# EAGLE library part OL2381 (library microbuilder)
OL2381 - Integrated UHF Transceiver (315/434/868/915 MHz)
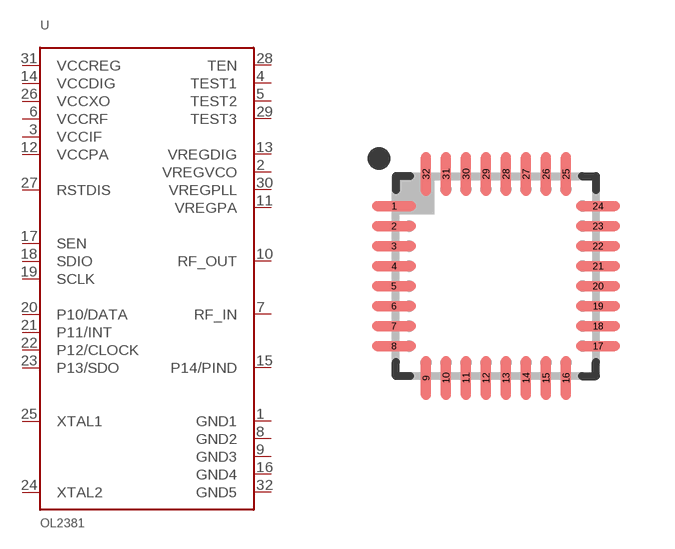
[diagram p91: symbol with the pads of HVQFN32-5X5; footprint HVQFN32-5X5]

Designator prefix U

## OL2381  [HVQFN32-5X5]
1  GND1
2  VREGVCO
3  VCCIF
4  TEST1
5  TEST2
6  VCCRF
7  RF_IN
8  GND2
9  GND3
10  RF_OUT
11  VREGPA
12  VCCPA
13  VREGDIG
14  VCCDIG
15  P14/PIND
16  GND4
17  SEN
18  SDIO
19  SCLK
20  P10/DATA
21  P11/INT
22  P12/CLOCK
23  P13/SDO
24  XTAL2
25  XTAL1
26  VCCXO
27  RSTDIS
28  TEN
29  TEST3
30  VREGPLL
31  VCCREG
32  GND5

## Footprint HVQFN32-5X5 (pad centres in mm)
HVQFN32 5x5x0.85mm (0.5mm pitch) Reference: http://ics.nxp.com/support/design/microcontrollers/smart.metering/pdf/ol2381.datasheet.pdf
smd 1.1 x 0.25: 1 -2.55,1.75; 2 -2.55,1.25; 3 -2.55,0.75; 4 -2.55,0.25; 5 -2.55,-0.25; 6 -2.55,-0.75; 7 -2.55,-1.25; 8 -2.55,-1.75; 17 2.55,-1.75; 18 2.55,-1.25; 19 2.55,-0.75; 20 2.55,-0.25; 21 2.55,0.25; 22 2.55,0.75; 23 2.55,1.25; 24 2.55,1.75
smd 0.25 x 1.1: 9 -1.75,-2.55; 10 -1.25,-2.55; 11 -0.75,-2.55; 12 -0.25,-2.55; 13 0.25,-2.55; 14 0.75,-2.55; 15 1.25,-2.55; 16 1.75,-2.55; 25 1.75,2.55; 26 1.25,2.55; 27 0.75,2.55; 28 0.25,2.55; 29 -0.25,2.55; 30 -0.75,2.55; 31 -1.25,2.55; 32 -1.75,2.55